# Altium integrated library PAsystem.IntLib: 13 symbols
Pins are listed as number, name and electrical type; pins without a type are passive.

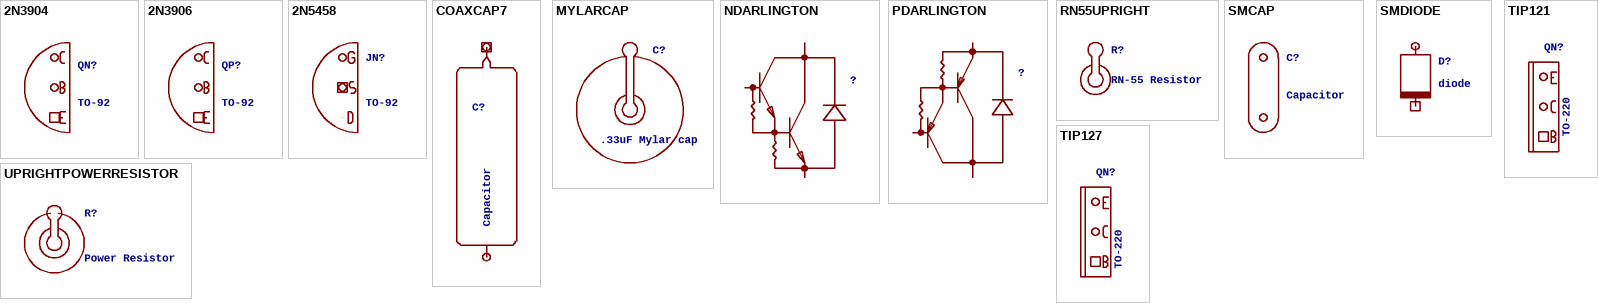
[diagram p0: symbols 2N3904 to UPRIGHTPOWERRESISTOR]

## 2N3904
designator QN?, comment TO-92
footprint TO92
pins: 1 C, 2 B, 3 E

## 2N3906
designator QP?, comment TO-92
footprint TO92
pins: 1 C, 2 B, 3 E

## 2N5458
designator JN?, comment TO-92
footprint TO92
pins: 1 G, 2 S, 3 D

## COAXCAP7
designator C?, comment Capacitor
footprint C275-093X316
pins: 1 A, 2 B

## MYLARCAP
designator C?, comment .33uF Mylar cap
footprint E5R
pins: + A, - B

## NDARLINGTON
designator ?
footprint TO220AV
pins: B, C, E

## PDARLINGTON
designator ?
footprint TO220AV
pins: B, C, E

## RN55UPRIGHT
designator R?, comment RN-55 Resistor
footprint 0207/2V
pins: 1 A, 2 B

## SMCAP
designator C?, comment Capacitor
footprint C050-024X044
pins: 1 A, 2 B

## SMDIODE
designator D?, comment diode
footprint C2673
pins: A, C

## TIP121
designator QN?, comment TO-220
footprint TO220AV
pins: B, C, E

## TIP127
designator QN?, comment TO-220
footprint TO220AV
pins: B, C, E

## UPRIGHTPOWERRESISTOR
designator R?, comment Power Resistor
footprint 0617V
pins: 1 A, 2 B